# Altium footprint library 生日礼物V2.PcbLib: 26 footprints (part 2 of 2)
Each footprint in its own frame and in the unit in brackets; x right, y up, seen from the top. Pads: shape width x height; smd on the part's side, far side on the other; paste and mask are expansions set on the pad; w line width, h text height; cw(c..) or ccw(c..) is an arc to the next point about the centre after c.
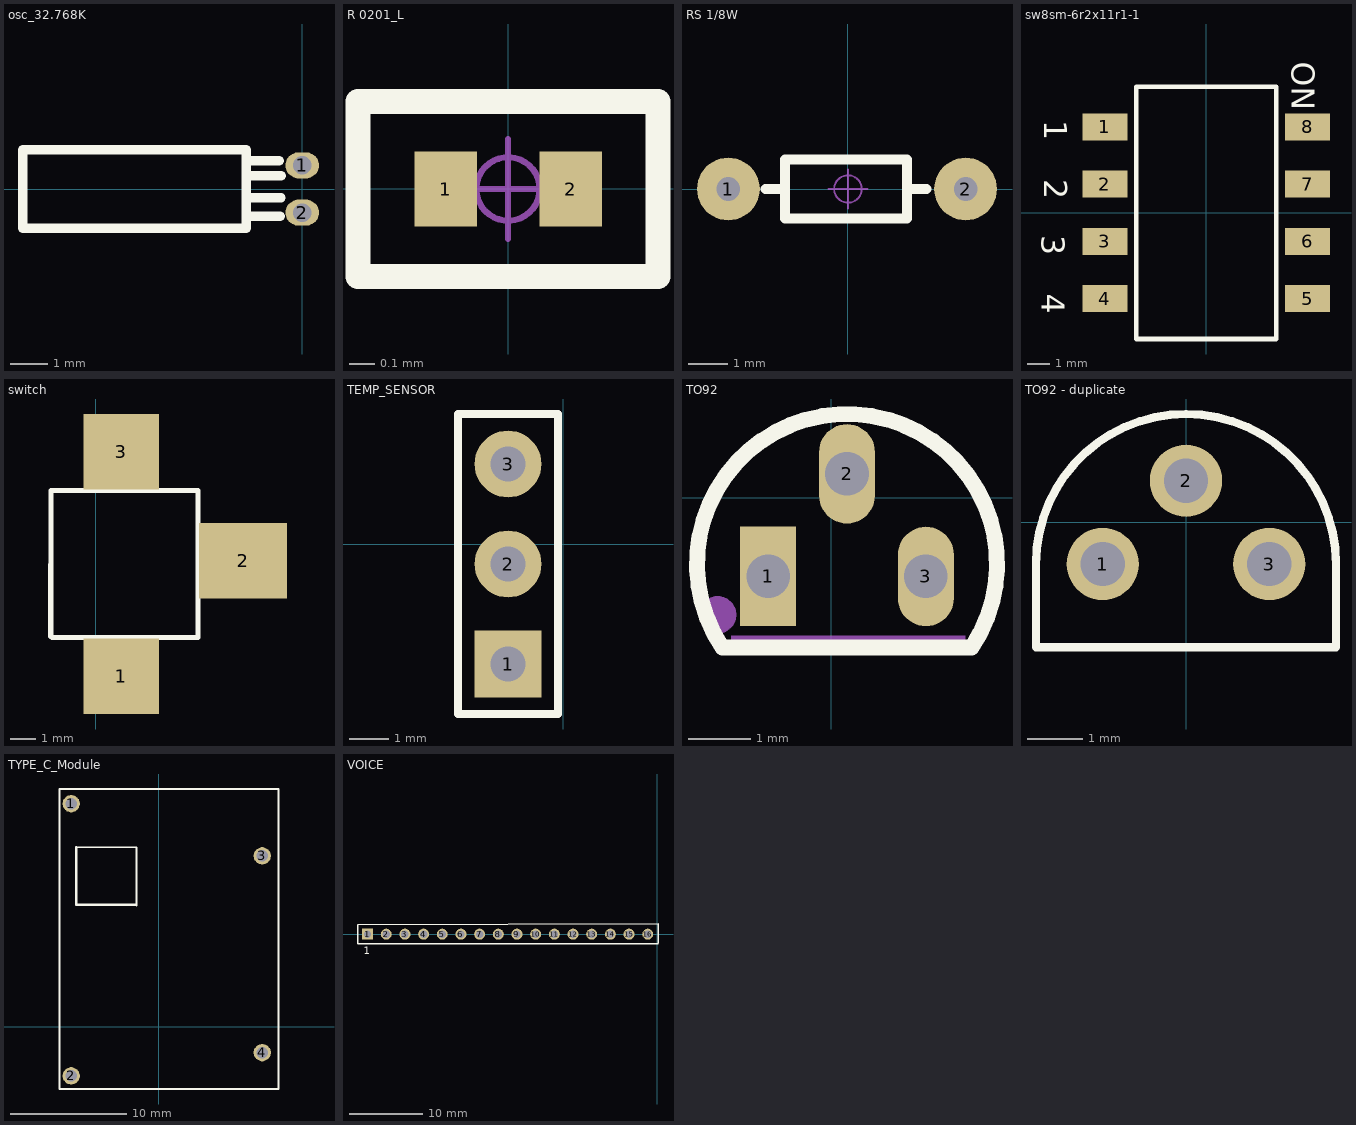
[diagram p1: the footprints below, top view; thin cyan lines are the x and y axes]

## osc_32.768K [mm]
pads (2):
  oval 0.9x0.7 hole 0.5: 1(0,0.635) 2(0,-0.635)
Top Overlay:
  lines w0.254: -1.5,-0.733 -0.586,-0.733 ; -1.5,-0.23 -0.57,-0.23 ; -1.5,0.362 -0.569,0.362 ; -1.5,0.761 -0.618,0.761 ; -7.5,-1.05 -1.5,-1.05 -1.5,1.05 -7.5,1.05 -7.5,-1.05
Mechanical 15:
  region: -1.5,1.1 -7.5,1.1 -7.6,1 -7.6,-1 -7.5,-1.1 -1.5,-1.1 -1.5,-1 -7.4,-1 -7.5,-0.9 -7.5,0.9 -7.4,1 -1.5,1

## R 0201_L [mm] "1/20W贴片电阻"
pads (2):
  rect 0.25x0.3 smd: 1(-0.25,0) 2(0.25,0)
Top Overlay:
  lines w0.102: -0.6,-0.35 -0.6,0.35 0.6,0.35 0.6,-0.35 -0.6,-0.35
Mechanical 15:
  circle w0.025: c0,0 r0.127
  lines w0.025: -0.2,0 0.2,0 ; 0,-0.2 0,0.2
3D body "R 0201.STEP": height 0.23, standoff 0, extent -0.3,-0.15 0.3,0.15

## RS 1/8W [mm] "直插色环电阻，脚距6mm，直径1.5mm"
pads (2):
  round 1.6 hole 0.6: 1(-3.048,0) 2(3,0)
Top Overlay:
  lines w0.254: -2.1,0 -1.6,0 ; 2,0 1.5,0 ; -1.6,0 -1.6,-0.75 1.5,-0.75 1.5,0 ; -1.6,0 -1.6,0.75 1.5,0.75 1.5,0
Mechanical 15:
  circle w0.05: c0,0 r0.35
  lines w0.05: -0.5,0 0.5,0 ; 0,-0.5 0,0.5
3D body "RS 1-8W.STEP": height 1.52, standoff -3.49, extent -3.225,-0.757 3.225,0.757

## sw8sm-6r2x11r1-1 [mm]
pads (8):
  rect 2x1.2 smd: 1(-4.5,3.81) 2(-4.5,1.27) 3(-4.5,-1.27) 4(-4.5,-3.81) 5(4.5,-3.81) 6(4.5,-1.27) 7(4.5,1.27) 8(4.5,3.81)
Top Overlay:
  lines w0.2: -3.1,-5.6 -3.1,5.6 3.1,5.6 3.1,-5.6 -3.1,-5.6
  text "1" at -7.2,4.1 h1.02
  text "2" at -7.2,1.5 h1.02
  text "3" at -7.3,-1 h1.02
  text "4" at -7.3,-3.6 h1.02
  text "ON" at 3.8,6.7 h1.02

## switch [mil]
pads (3):
  rect 118.11x118.11 smd: 1(40,-445) 3(40,-95)
  rect 137.8x118.11 smd: 2(230,-265)
Top Layer:
  text "s" at 25,-290 h60
Top Overlay:
  lines w7.87: -70.09,-383.35 -70,-155 158.35,-155.09 ; -68.35,-384.91 160,-385 ; 159.91,-383.35 160,-155

## TEMP_SENSOR [mm] "排母，3脚"
pads (3):
  rect 1.7x1.7 hole 0.9: 1(-1.397,-3.048)
  round 1.7 hole 0.9: 2(-1.397,-0.508) 3(-1.397,2.032)
Top Overlay:
  lines w0.2: -2.667,-4.318 -0.127,-4.318 -0.127,3.302 -2.667,3.302 -2.667,-4.318
3D body "HDR2.54-1P_M.STEP": height 8.5, standoff -3, extent -2.667,0.762 -0.127,3.302
3D body "HDR2.54-1P_M.STEP": height 8.5, standoff -3, extent -2.667,-4.318 -0.127,-1.778
3D body "HDR2.54-1P_M.STEP": height 8.5, standoff -3, extent -2.667,-1.778 -0.127,0.762

## TO92 [mm]
pads (3):
  rect 0.9x1.6 hole 0.7: 1(-1.016,-1.27)
  oval 0.9x1.6 hole 0.7: 2(0.254,0.381) 3(1.524,-1.27)
Top Overlay:
  lines w0.254: -1.751,-2.413 cw(c0.254,-1.069) 2.258,-2.413 -1.751,-2.413
Mechanical 15:
  circle w0.3: c-1.826,-1.887 r0.15
  region: 2.154,-2.227 -1.606,-2.227 -1.606,-2.507 2.154,-2.507

## TO92 - duplicate [mm]
pads (3):
  round 1.3 hole 0.8 unplated: 1(-1.5,-0.75) 2(0,0.75) 3(1.5,-0.75)
Top Overlay:
  lines w0.15: -2.7,-2.25 2.7,-2.25 2.7,-0.75 ccw(c0,-0.75) -2.7,-0.75 -2.7,-2.25

## TYPE_C_Module [mm]
pads (4):
  round 1.5 hole 1: 1(-7.545,19.278) 2(-7.545,-4.222) 3(8.955,14.778) 4(8.955,-2.222)
Top Overlay:
  lines w0.2: -7.112,10.541 -7.112,15.541 -1.905,15.494 -1.905,10.494 ; -6.985,10.541 -2.032,10.541 ; 10.286,20.54 -8.561,20.548 -8.561,-5.36 10.362,-5.36 10.362,20.548

## VOICE [mm] "VOICE"
pads (16):
  rect 1.5x1.5 hole 1: 1(-39.37,0)
  round 1.5 hole 1: 2(-36.83,0) 3(-34.29,0) 4(-31.75,0) 5(-29.21,0) 6(-26.67,0) 7(-24.13,0) 8(-21.59,0) 9(-19.05,0) 10(-16.51,0) 11(-13.97,0) 12(-11.43,0) 13(-8.89,0) 14(-6.35,0) 15(-3.81,0) 16(-1.27,0)
Top Overlay:
  lines w0.2: 0.127,-1.27 -40.67,-1.3 -40.67,1.3 0.127,1.397 0.127,-1.203
  text "1" at -39.87,-2.7 h1.02